# Altium footprint library MB11361.PcbLib: 40 footprints (part 1 of 3)
Each footprint in its own frame and in the unit in brackets; x right, y up, seen from the top. Pads: shape width x height; smd on the part's side, far side on the other; paste and mask are expansions set on the pad; w line width, h text height; cw(c..) or ccw(c..) is an arc to the next point about the centre after c.
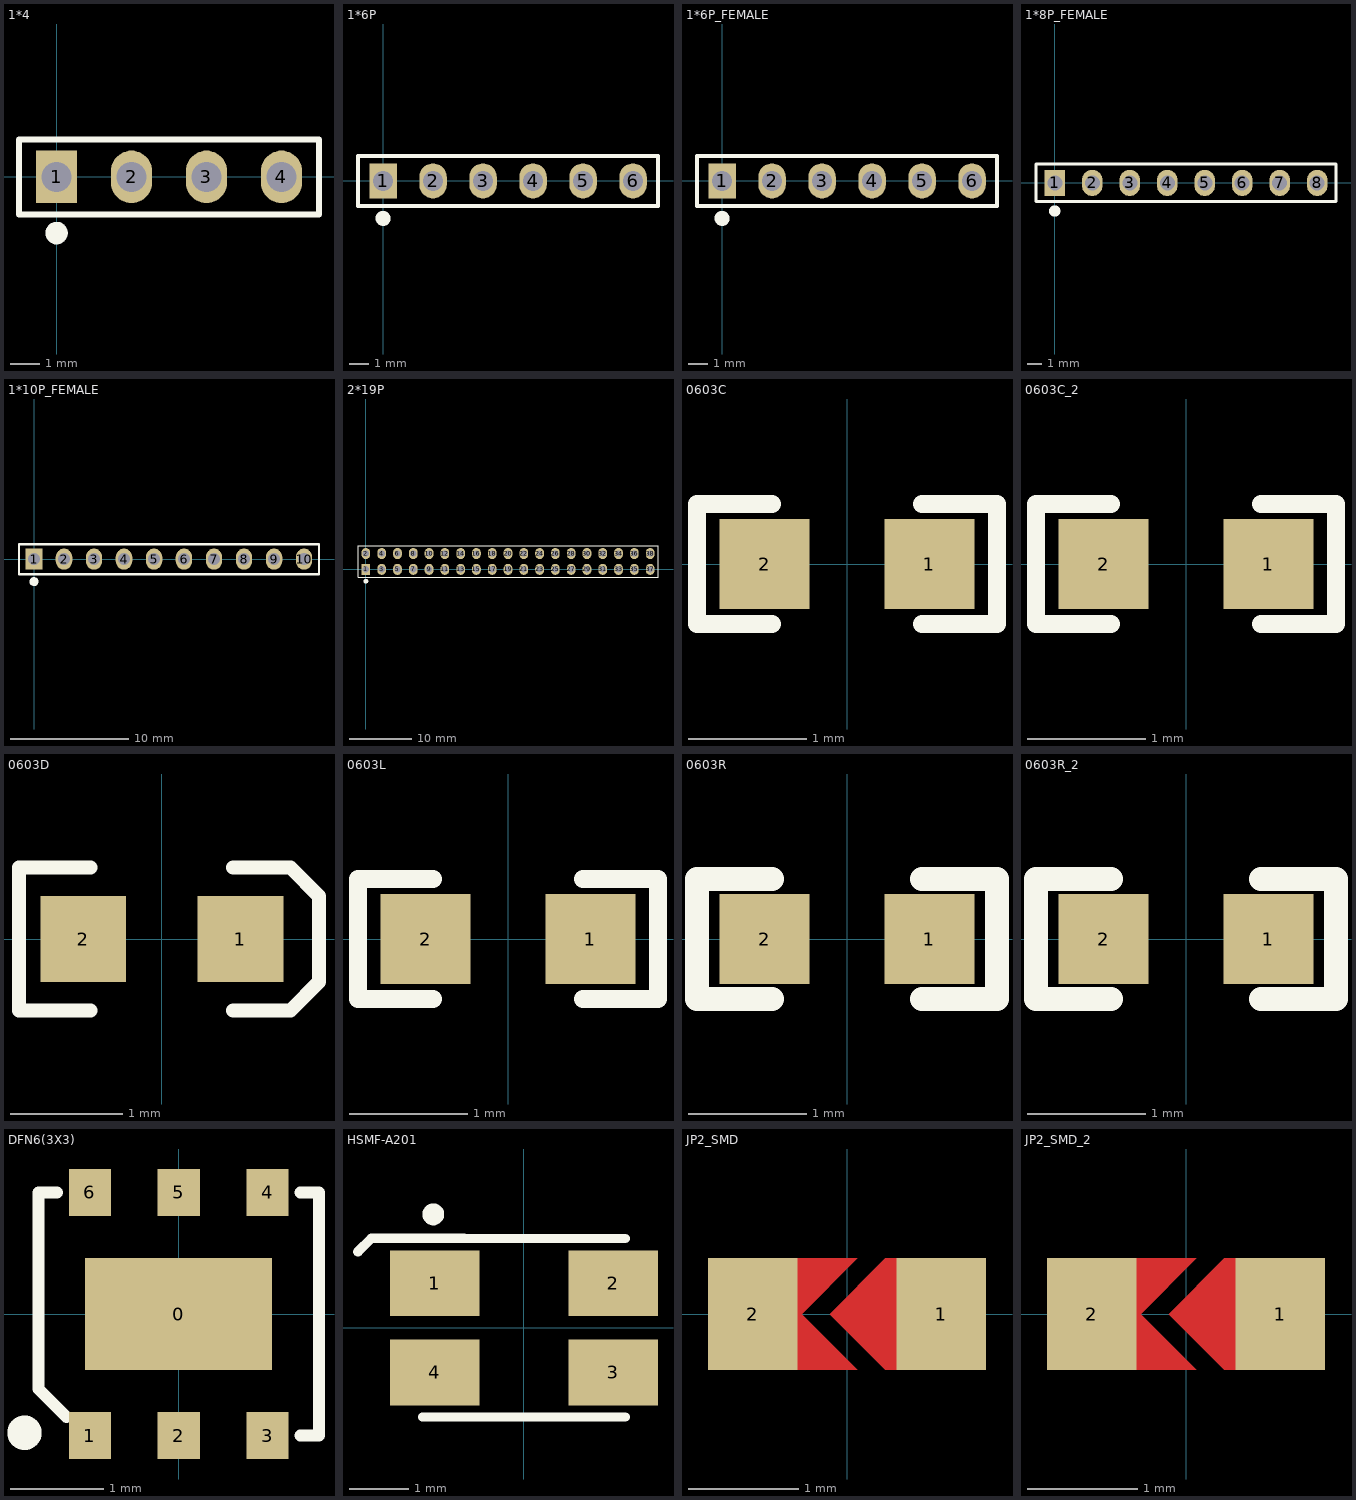
[diagram p0: the footprints below, top view; thin cyan lines are the x and y axes]

## 1*4 [mil]
height 236.22
pads (4):
  rect 55x70 hole 40: 1(0,0)
  oval 55x70 hole 40: 2(100,0) 3(200,0) 4(300,0)
Top Overlay:
  circle w15: c0.08,-75 r7.5
  lines w7.87: -50,-50 350,-50 350,50 -50,50 -50,-50

## 1*6P [mil]
height 236.22
pads (6):
  rect 55x70 hole 40: 1(0,0)
  oval 55x70 hole 40: 2(100,0) 3(200,0) 4(300,0) 5(400,0) 6(500,0)
Top Overlay:
  circle w15: c0.08,-75 r7.5
  lines w7.87: -50,-50 -50,50 550,50 550,-50 -50,-50

## 1*6P_FEMALE [mil]
height 236.22
pads (6):
  rect 55x70 hole 40: 1(0,0)
  oval 55x70 hole 40: 2(100,0) 3(200,0) 4(300,0) 5(400,0) 6(500,0)
Top Overlay:
  circle w15: c0.08,-75 r7.5
  lines w7.87: -50,-50 -50,50 550,50 550,-50 -50,-50

## 1*8P_FEMALE [mil]
height 236.22
pads (8):
  rect 55x70 hole 40: 1(0,0)
  oval 55x70 hole 40: 2(100,0) 3(200,0) 4(300,0) 5(400,0) 6(500,0) 7(600,0) 8(700,0)
Top Overlay:
  circle w15: c0.08,-75 r7.5
  lines w7.87: -50,-50 -50,50 750,50 750,-50 -50,-50

## 1*10P_FEMALE [mil]
height 236.22
pads (10):
  rect 55x70 hole 40: 1(0,0)
  oval 55x70 hole 40: 2(100,0) 3(200,0) 4(300,0) 5(400,0) 6(500,0) 7(600,0) 8(700,0) 9(800,0) 10(900,0)
Top Overlay:
  circle w15: c0.08,-75 r7.5
  lines w7.87: -50,-50 950,-50 950,50 -50,50 -50,-50

## 2*19P [mil]
height 6
pads (38):
  rect 55x70 hole 40: 1(0,0)
  oval 55x70 hole 40: 2(0,100) 3(100,0) 4(100,100) 5(200,0) 6(200,100) 7(300,0) 8(300,100) 9(400,0) 10(400,100) 11(500,0) 12(500,100) 13(600,0) 14(600,100) 15(700,0) 16(700,100) 17(800,0) 18(800,100) 19(900,0) 20(900,100) 21(1000,0) 22(1000,100) 23(1100,0) 24(1100,100) 25(1200,0) 26(1200,100) 27(1300,0) 28(1300,100) 29(1400,0) 30(1400,100) 31(1500,0) 32(1500,100) 33(1600,0) 34(1600,100) 35(1700,0) 36(1700,100) 37(1800,0) 38(1800,100)
Top Overlay:
  circle w15: c0.08,-75 r7.5
  lines w7.87: -50,-50 -50,150 1850,150 1850,-50 -50,-50

## 0603C [mil]
height 275.98
pads (2):
  rect 30x30 smd: 1(27.5,0) 2(-27.5,0)
Top Overlay:
  lines w6: -25,-20 -50,-20 -50,20 -25,20 ; 25,-20 50,-20 50,20 25,20

## 0603C_2 [mil]
pads (2):
  rect 30x30 smd: 1(27.5,0) 2(-27.5,0)
Top Overlay:
  lines w6: -25,-20 -50,-20 -50,20 -25,20 ; 25,-20 50,-20 50,20 25,20

## 0603D [mil]
height 78.74
pads (2):
  rect 30x30 smd: 1(27.5,0) 2(-27.5,0)
Top Overlay:
  lines w5: -25,-25 -50,-25 -50,25 -25,25 ; 25,-25 45,-25 55,-15 55,15 45,25 25,25

## 0603L [mil]
height 275.98
pads (2):
  rect 30x30 smd: 1(27.5,0) 2(-27.5,0)
Top Overlay:
  lines w6: -25,-20 -50,-20 -50,20 -25,20 ; 25,-20 50,-20 50,20 25,20

## 0603R [mil]
height 78.74
pads (2):
  rect 30x30 smd: 1(27.5,0) 2(-27.5,0)
Top Overlay:
  lines w8: -25,-20 -50,-20 -50,20 -25,20 ; 25,-20 50,-20 50,20 25,20

## 0603R_2 [mil]
pads (2):
  rect 30x30 smd: 1(27.5,0) 2(-27.5,0)
Top Overlay:
  lines w8: -25,-20 -50,-20 -50,20 -25,20 ; 25,-20 50,-20 50,20 25,20

## DFN6(3X3) [mm]
height 7.01
pads (7):
  rect 2x1.2 smd: 0(0,0)
  rect 0.45x0.5 smd: 1(-0.95,-1.3) 2(0,-1.3) 3(0.95,-1.3) 4(0.95,1.3) 5(0,1.3) 6(-0.95,1.3)
Top Overlay:
  circle w0.25: c-1.649,-1.27 r0.059
  lines w0.127: -1.3,1.3 -1.5,1.3 -1.5,-0.8 -1.2,-1.1 ; 1.3,-1.3 1.5,-1.3 1.5,1.3 1.3,1.3

## HSMF-A201 [mm]
height 2
pads (4):
  rect 1.5x1.1 smd: 1(-1.5,0.75) 2(1.5,0.75) 3(1.5,-0.75) 4(-1.5,-0.75)
Top Overlay:
  circle w0.25: c-1.522,1.905 r0.059
  lines w0.152: -1.7,-1.5 1.7,-1.5 ; -1.7,1.5 1.7,1.5
  lines w0.16: -2.786,1.278 -2.564,1.5 ; -2.54,1.5 -1,1.5

## JP2_SMD [mil]
height 78.74
pads (2):
  rect 32x40 smd: 1(33.75,0) 2(-33.75,0)
Top Layer:
  region: 23.75,20 13.75,20 -6.25,0 13.75,-20 23.75,-20
  region: -26.25,0 -16.25,0 3.75,20 -26.25,20
  region: -26.25,0 -16.25,0 3.75,-20 -26.25,-20
Top Paste:
  region: 23.75,20 13.75,20 -6.25,0 13.75,-20 23.75,-20
  region: -26.25,0 -16.25,0 3.75,20 -26.25,20
  region: -26.25,0 -16.25,0 3.75,-20 -26.25,-20
Top Solder:
  region: 23.75,24 13.75,24 -10.25,0 13.75,-24 23.75,-24
  region: -26.25,0 -12.25,0 11.75,24 -26.25,24
  region: -26.25,0 -12.25,0 11.75,-24 -26.25,-24

## JP2_SMD_2 [mil]
pads (2):
  rect 32x40 smd: 1(33.75,0) 2(-33.75,0)
Top Layer:
  region: 23.75,20 13.75,20 -6.25,0 13.75,-20 23.75,-20
  region: -26.25,0 -16.25,0 3.75,20 -26.25,20
  region: -26.25,0 -16.25,0 3.75,-20 -26.25,-20
Top Paste:
  region: 23.75,20 13.75,20 -6.25,0 13.75,-20 23.75,-20
  region: -26.25,0 -16.25,0 3.75,20 -26.25,20
  region: -26.25,0 -16.25,0 3.75,-20 -26.25,-20
Top Solder:
  region: 23.75,24 13.75,24 -10.25,0 13.75,-24 23.75,-24
  region: -26.25,0 -12.25,0 11.75,24 -26.25,24
  region: -26.25,0 -12.25,0 11.75,-24 -26.25,-24